# EAGLE library part GY-81 (library BEEP)
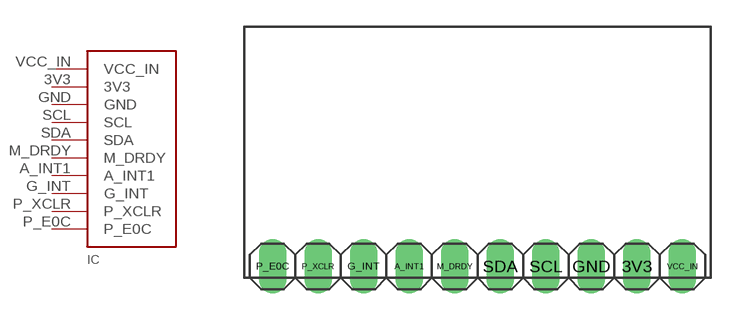
[diagram p11: symbol with the pads of GY-81; footprint GY-81]

Designator prefix IC

## GY-81  [GY-81]
3V3  3V3
A_INT1  A_INT1
G_INT  G_INT
GND  GND
M_DRDY  M_DRDY
P_E0C  P_E0C
P_XCLR  P_XCLR
SCL  SCL
SDA  SDA
VCC_IN  VCC_IN

## Footprint GY-81 (pad centres in mm)
drill 1.016 long: 3V3 8.89,-6.35; A_INT1 -3.81,-6.35; G_INT -6.35,-6.35; GND 6.35,-6.35; M_DRDY -1.27,-6.35; P_E0C -11.43,-6.35; P_XCLR -8.89,-6.35; SCL 3.81,-6.35; SDA 1.27,-6.35; VCC_IN 11.43,-6.35